# Altium schematic symbol library SCH - BUFFERS - ON SEMI MC74HC125ADTR2G.SCHLIB: 1 symbol
Pins are listed as number, name and electrical type; pins without a type are passive.

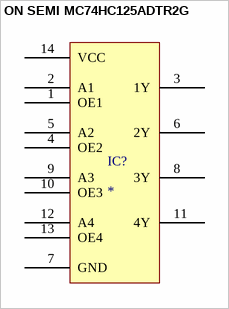
[diagram p0: symbol ON SEMI MC74HC125ADTR2G]

## ON SEMI MC74HC125ADTR2G
designator IC?
pins: 1 OE1, 2 A1, 3 1Y, 4 OE2, 5 A2, 6 2Y, 7 GND, 8 3Y, 9 A3, 10 OE3, 11 4Y, 12 A4, 13 OE4, 14 VCC